# Altium integrated library TI Amplifiers and Linear PGA-VGA.IntLib: 149 symbols (part 4 of 8)
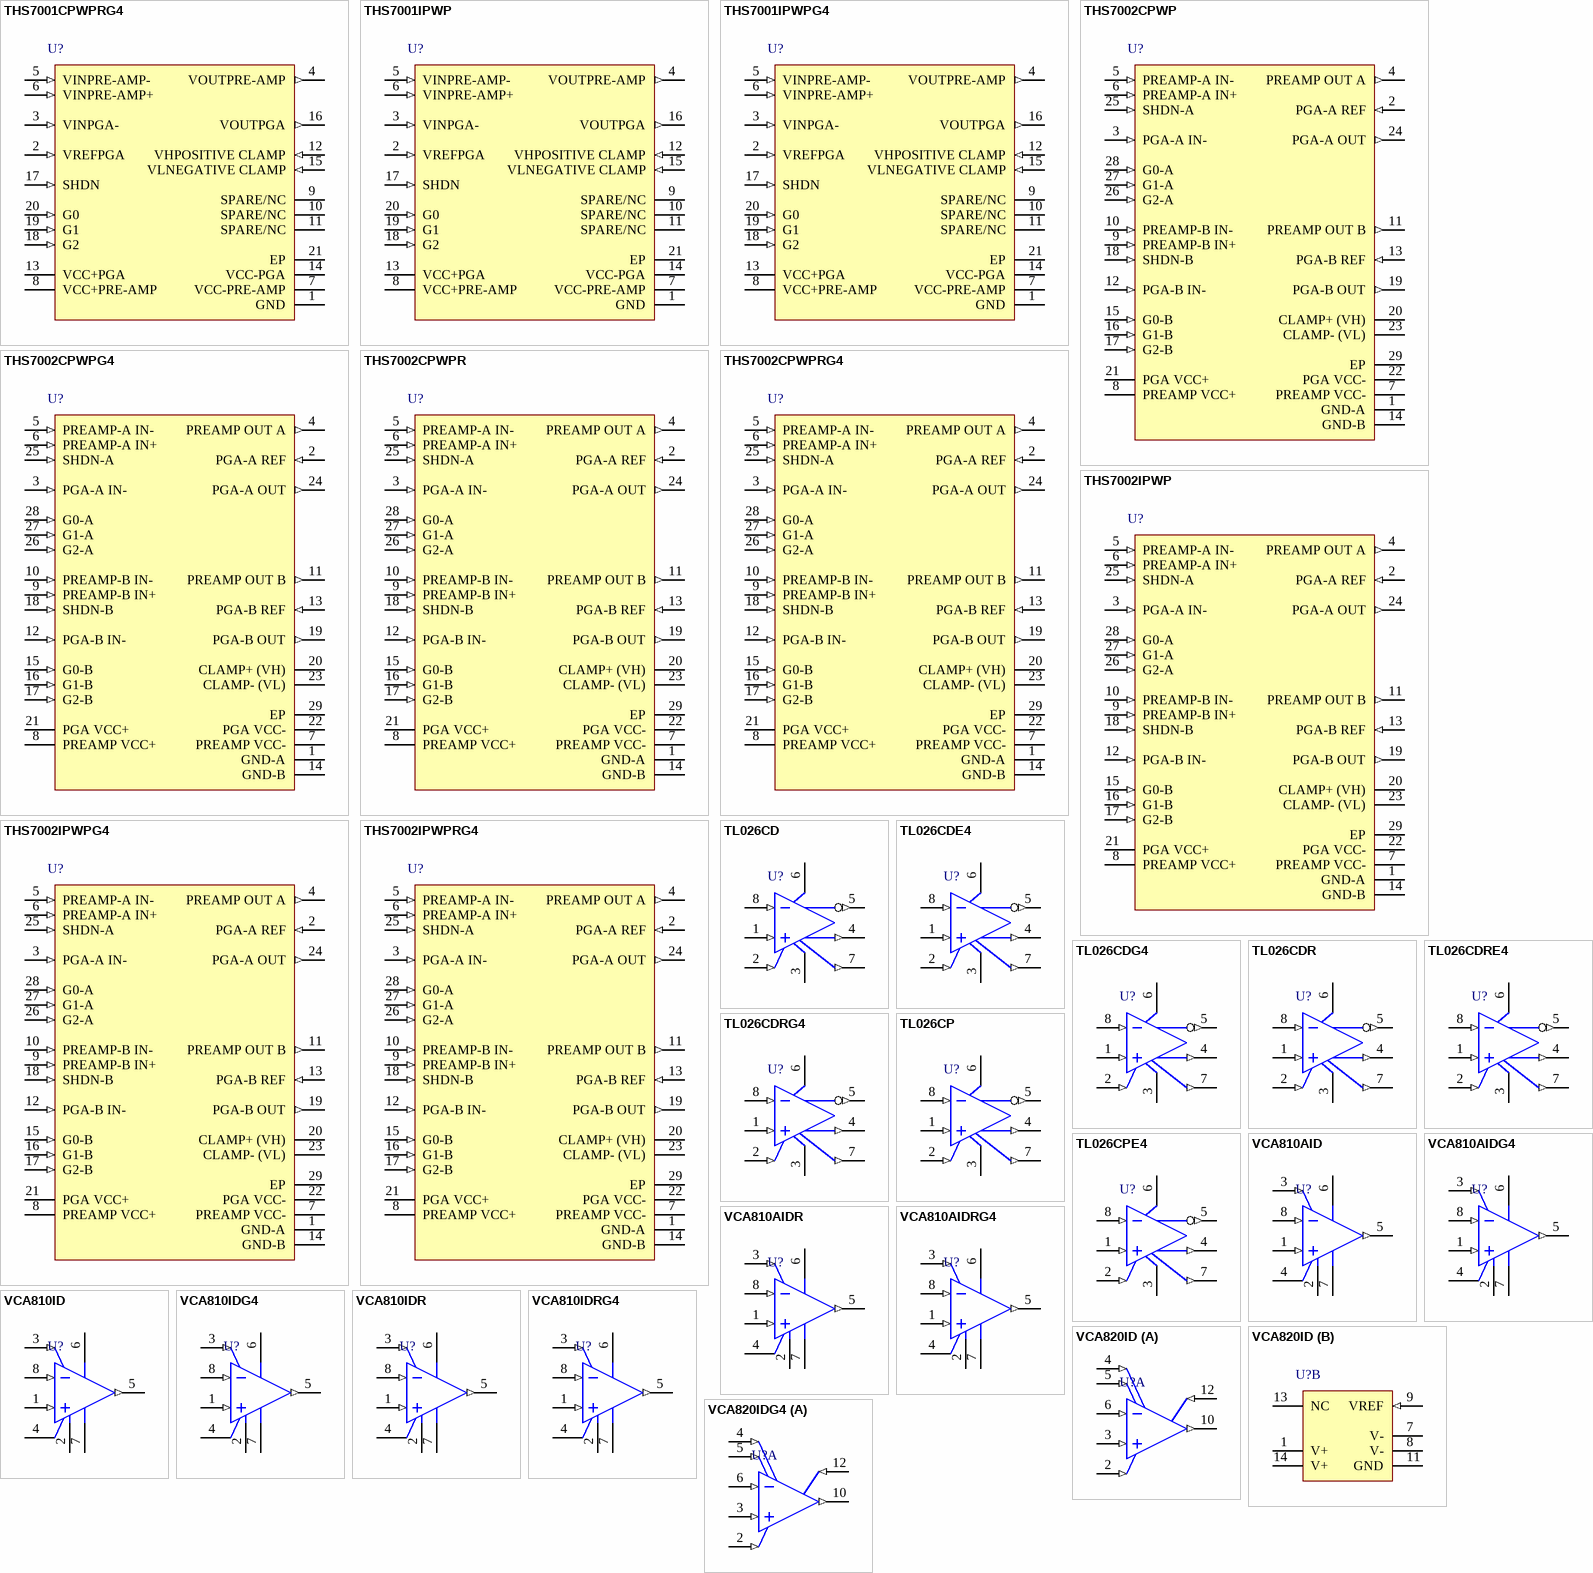
[diagram p10: symbols THS7001CPWPRG4 to VCA820IDG4]

## THS7002IPWPG4
designator U?
70-MHz High-Speed Programmable-Gain Amplifier, Dual, -40 to 85 degC, 28-pin SOP (PWP28), Green (RoHS & no Sb/Br); Manufacturer: Texas Instruments; PartNumber: THS7002IPWPG4; BW @ Acl(MHz): 100; Disable: TRUE; Iib(Max)(nA): 6000; Number of Channels: 2; Slew Rate(Typ)(V/us): 85; SubFamily: Variable Gain Amplifier; Vio(Max)(mV): 7; Vn at Flatband(Typ)(nV/rtHz): 1.7; Vs(Max)(V): 32; Vs(Min)(V): 9; DatasheetVersion: SLOS214C; PackageVersion: 4073225-6/I, 05/2011; PackageReference: PWP28-5720X1950TP; PackageDescription: 28-Pin Plastic Small Outline, Body 4.4 x 9.7 mm, Pitch 0.65 mm; Supplier 1: Digi-Key; Supplier Part Number 1: THS7002IPWPG4-ND; Supplier 2: Newark; Supplier Part Number 2: 52M6059; Supplier 3: Mouser; Supplier Part Number 3: 595-THS7002IPWPG4; Eco-Plan: Green (RoHS & no Sb/Br); Mounting Technology: Surface Mount; Code_JEDEC: MO-153; ComponentLink1Description: Manufacturer URL; ComponentLink1URL: http://www.ti.com/; ComponentLink2Description: Datasheet; ComponentLink2URL: http://www.ti.com/general/docs/lit/getliterature.tsp?genericPartNumber=THS7002&fileType=pdf; ComponentLink3Description: Package Specification; ComponentLink3URL: http://www.ti.com/litv/pdf/mpds373
footprint TI-PWP28-5720X1950TP_N (SOP, 28-Leads, Body 9.8x4.5mm, Pitch 0.65mm, Thermal Pad 6.17x2.4mm, IPC Medium Density)
footprint TI-PWP28-5720X1950TP_L (SOP, 28-Leads, Body 9.8x4.5mm, Pitch 0.65mm, Thermal Pad 6.17x2.4mm, IPC High Density)
footprint TI-PWP28-5720X1950TP_M (SOP, 28-Leads, Body 9.8x4.5mm, Pitch 0.65mm, Thermal Pad 6.17x2.4mm, IPC Low Density)
pins: 1 GND-A (power), 2 PGA-A REF (in), 3 PGA-A IN- (in), 4 PREAMP OUT A (out), 5 PREAMP-A IN- (in), 6 PREAMP-A IN+ (in), 7 PREAMP VCC- (power), 8 PREAMP VCC+ (power), 9 PREAMP-B IN+ (in), 10 PREAMP-B IN- (in), 11 PREAMP OUT B (out), 12 PGA-B IN- (in), 13 PGA-B REF (in), 14 GND-B (power), 15 G0-B (in), 16 G1-B (in), 17 G2-B (in), 18 SHDN-B (in), 19 PGA-B OUT (out), 20 CLAMP+ (VH) (power), 21 PGA VCC+ (power), 22 PGA VCC- (power), 23 CLAMP- (VL) (power), 24 PGA-A OUT (out), 25 SHDN-A (in), 26 G2-A (in), 27 G1-A (in), 28 G0-A (in), 29 EP (power)

## THS7002IPWPRG4
designator U?
70-MHz High-Speed Programmable-Gain Amplifier, Dual, -40 to 85 degC, 28-pin SOP (PWP28); Manufacturer: Texas Instruments; PartNumber: THS7002IPWPRG4; BW @ Acl(MHz): 100; Disable: TRUE; Iib(Max)(nA): 6000; Number of Channels: 2; Slew Rate(Typ)(V/us): 85; SubFamily: Variable Gain Amplifier; Vio(Max)(mV): 7; Vn at Flatband(Typ)(nV/rtHz): 1.7; Vs(Max)(V): 32; Vs(Min)(V): 9; DatasheetVersion: SLOS214C; PackageVersion: 4073225-6/I, 05/2011; PackageReference: PWP28-5720X1950TP; PackageDescription: 28-Pin Plastic Small Outline, Body 4.4 x 9.7 mm, Pitch 0.65 mm; Supplier 1: Mouser; Supplier Part Number 1: N/A; Mounting Technology: Surface Mount; Code_JEDEC: MO-153; ComponentLink1Description: Manufacturer URL; ComponentLink1URL: http://www.ti.com/; ComponentLink2Description: Datasheet; ComponentLink2URL: http://www.ti.com/general/docs/lit/getliterature.tsp?genericPartNumber=THS7002&fileType=pdf; ComponentLink3Description: Package Specification; ComponentLink3URL: http://www.ti.com/litv/pdf/mpds373
footprint TI-PWP28-5720X1950TP_N (SOP, 28-Leads, Body 9.8x4.5mm, Pitch 0.65mm, Thermal Pad 6.17x2.4mm, IPC Medium Density)
footprint TI-PWP28-5720X1950TP_L (SOP, 28-Leads, Body 9.8x4.5mm, Pitch 0.65mm, Thermal Pad 6.17x2.4mm, IPC High Density)
footprint TI-PWP28-5720X1950TP_M (SOP, 28-Leads, Body 9.8x4.5mm, Pitch 0.65mm, Thermal Pad 6.17x2.4mm, IPC Low Density)
pins: 1 GND-A (power), 2 PGA-A REF (in), 3 PGA-A IN- (in), 4 PREAMP OUT A (out), 5 PREAMP-A IN- (in), 6 PREAMP-A IN+ (in), 7 PREAMP VCC- (power), 8 PREAMP VCC+ (power), 9 PREAMP-B IN+ (in), 10 PREAMP-B IN- (in), 11 PREAMP OUT B (out), 12 PGA-B IN- (in), 13 PGA-B REF (in), 14 GND-B (power), 15 G0-B (in), 16 G1-B (in), 17 G2-B (in), 18 SHDN-B (in), 19 PGA-B OUT (out), 20 CLAMP+ (VH) (power), 21 PGA VCC+ (power), 22 PGA VCC- (power), 23 CLAMP- (VL) (power), 24 PGA-A OUT (out), 25 SHDN-A (in), 26 G2-A (in), 27 G1-A (in), 28 G0-A (in), 29 EP (power)

## TL026CD
designator U?
Differential High-Frequency Amplifier with AGC, 0 to 70 degC, 8-pin SOIC (D8), Green (RoHS & no Sb/Br); Manufacturer: Texas Instruments; PartNumber: TL026CD; BW @ Acl(MHz): 50; Iib(Max)(nA): 30000; Number of Channels: 1; SubFamily: Variable Gain Amplifier; Vn at Flatband(Typ)(nV/rtHz): 12; Vs(Max)(V): 8; Vs(Min)(V): 3; DatasheetVersion: SLFS007A; PackageVersion: 4040047-3/M, 06/2011; PackageReference: D8; PackageDescription: 8-Pin Plastic Small Outline, Body 4.9 x 3.9 mm, Pitch 1.27 mm; Supplier 1: Digi-Key; Supplier Part Number 1: 296-11818-5-ND; Supplier 2: Farnell; Supplier Part Number 2: 1459444; Supplier 3: Newark; Supplier Part Number 3: 62M0552; Supplier 4: Newark; Supplier Part Number 4: 76C9022; Supplier 5: Mouser; Supplier Part Number 5: 595-TL026CD; Eco-Plan: Green (RoHS & no Sb/Br); Mounting Technology: Surface Mount; Code_JEDEC: MS-012; ComponentLink1Description: Manufacturer URL; ComponentLink1URL: http://www.ti.com/; ComponentLink2Description: Datasheet; ComponentLink2URL: http://www.ti.com/general/docs/lit/getliterature.tsp?genericPartNumber=TL026&fileType=pdf; ComponentLink3Description: Package Specification; ComponentLink3URL: http://www.ti.com/litv/pdf/msoi002j
footprint TI-D8_N (SOIC, 8-Leads, Body 5x4mm, Pitch 1.27mm, IPC Medium Density)
footprint TI-D8_L (SOIC, 8-Leads, Body 5x4mm, Pitch 1.27mm, IPC High Density)
footprint TI-D8_M (SOIC, 8-Leads, Body 5x4mm, Pitch 1.27mm, IPC Low Density)
pins: 1 IN+ (in), 2 AGC (in), 3 VCC- (power), 4 OUT+ (out), 5 OUT- (out), 6 VCC+ (power), 7 REF OUT (out), 8 IN- (in)

## TL026CDE4
designator U?
Differential High-Frequency Amplifier with AGC, 0 to 70 degC, 8-pin SOIC (D8), Green (RoHS & no Sb/Br); Manufacturer: Texas Instruments; PartNumber: TL026CDE4; BW @ Acl(MHz): 50; Iib(Max)(nA): 30000; Number of Channels: 1; SubFamily: Variable Gain Amplifier; Vn at Flatband(Typ)(nV/rtHz): 12; Vs(Max)(V): 8; Vs(Min)(V): 3; DatasheetVersion: SLFS007A; PackageVersion: 4040047-3/M, 06/2011; PackageReference: D8; PackageDescription: 8-Pin Plastic Small Outline, Body 4.9 x 3.9 mm, Pitch 1.27 mm; Supplier 1: Digi-Key; Supplier Part Number 1: TL026CDE4-ND; Supplier 2: Mouser; Supplier Part Number 2: 595-TL026CDE4; Eco-Plan: Green (RoHS & no Sb/Br); Mounting Technology: Surface Mount; Code_JEDEC: MS-012; ComponentLink1Description: Manufacturer URL; ComponentLink1URL: http://www.ti.com/; ComponentLink2Description: Datasheet; ComponentLink2URL: http://www.ti.com/general/docs/lit/getliterature.tsp?genericPartNumber=TL026&fileType=pdf; ComponentLink3Description: Package Specification; ComponentLink3URL: http://www.ti.com/litv/pdf/msoi002j
footprint TI-D8_N (SOIC, 8-Leads, Body 5x4mm, Pitch 1.27mm, IPC Medium Density)
footprint TI-D8_L (SOIC, 8-Leads, Body 5x4mm, Pitch 1.27mm, IPC High Density)
footprint TI-D8_M (SOIC, 8-Leads, Body 5x4mm, Pitch 1.27mm, IPC Low Density)
pins: 1 IN+ (in), 2 AGC (in), 3 VCC- (power), 4 OUT+ (out), 5 OUT- (out), 6 VCC+ (power), 7 REF OUT (out), 8 IN- (in)

## TL026CDG4
designator U?
Differential High-Frequency Amplifier with AGC, 0 to 70 degC, 8-pin SOIC (D8), Green (RoHS & no Sb/Br); Manufacturer: Texas Instruments; PartNumber: TL026CDG4; BW @ Acl(MHz): 50; Iib(Max)(nA): 30000; Number of Channels: 1; SubFamily: Variable Gain Amplifier; Vn at Flatband(Typ)(nV/rtHz): 12; Vs(Max)(V): 8; Vs(Min)(V): 3; DatasheetVersion: SLFS007A; PackageVersion: 4040047-3/M, 06/2011; PackageReference: D8; PackageDescription: 8-Pin Plastic Small Outline, Body 4.9 x 3.9 mm, Pitch 1.27 mm; Supplier 1: Digi-Key; Supplier Part Number 1: TL026CDG4-ND; Supplier 2: Newark; Supplier Part Number 2: 41M5532; Supplier 3: Mouser; Supplier Part Number 3: 595-TL026CDG4; Eco-Plan: Green (RoHS & no Sb/Br); Mounting Technology: Surface Mount; Code_JEDEC: MS-012; ComponentLink1Description: Manufacturer URL; ComponentLink1URL: http://www.ti.com/; ComponentLink2Description: Datasheet; ComponentLink2URL: http://www.ti.com/general/docs/lit/getliterature.tsp?genericPartNumber=TL026&fileType=pdf; ComponentLink3Description: Package Specification; ComponentLink3URL: http://www.ti.com/litv/pdf/msoi002j
footprint TI-D8_N (SOIC, 8-Leads, Body 5x4mm, Pitch 1.27mm, IPC Medium Density)
footprint TI-D8_L (SOIC, 8-Leads, Body 5x4mm, Pitch 1.27mm, IPC High Density)
footprint TI-D8_M (SOIC, 8-Leads, Body 5x4mm, Pitch 1.27mm, IPC Low Density)
pins: 1 IN+ (in), 2 AGC (in), 3 VCC- (power), 4 OUT+ (out), 5 OUT- (out), 6 VCC+ (power), 7 REF OUT (out), 8 IN- (in)

## TL026CDR
designator U?
Differential High-Frequency Amplifier with AGC, 0 to 70 degC, 8-pin SOIC (D8), Green (RoHS & no Sb/Br); Manufacturer: Texas Instruments; PartNumber: TL026CDR; BW @ Acl(MHz): 50; Iib(Max)(nA): 30000; Number of Channels: 1; SubFamily: Variable Gain Amplifier; Vn at Flatband(Typ)(nV/rtHz): 12; Vs(Max)(V): 8; Vs(Min)(V): 3; DatasheetVersion: SLFS007A; PackageVersion: 4040047-3/M, 06/2011; PackageReference: D8; PackageDescription: 8-Pin Plastic Small Outline, Body 4.9 x 3.9 mm, Pitch 1.27 mm; Supplier 1: Digi-Key; Supplier Part Number 1: 296-24363-2-ND; Supplier 2: Digi-Key; Supplier Part Number 2: 296-24363-1-ND; Supplier 3: Digi-Key; Supplier Part Number 3: 296-24363-6-ND; Supplier 4: Newark; Supplier Part Number 4: 76C9023; Supplier 5: Mouser; Supplier Part Number 5: 595-TL026CDR; Eco-Plan: Green (RoHS & no Sb/Br); Mounting Technology: Surface Mount; Code_JEDEC: MS-012; ComponentLink1Description: Manufacturer URL; ComponentLink1URL: http://www.ti.com/; ComponentLink2Description: Datasheet; ComponentLink2URL: http://www.ti.com/general/docs/lit/getliterature.tsp?genericPartNumber=TL026&fileType=pdf; ComponentLink3Description: Package Specification; ComponentLink3URL: http://www.ti.com/litv/pdf/msoi002j
footprint TI-D8_N (SOIC, 8-Leads, Body 5x4mm, Pitch 1.27mm, IPC Medium Density)
footprint TI-D8_L (SOIC, 8-Leads, Body 5x4mm, Pitch 1.27mm, IPC High Density)
footprint TI-D8_M (SOIC, 8-Leads, Body 5x4mm, Pitch 1.27mm, IPC Low Density)
pins: 1 IN+ (in), 2 AGC (in), 3 VCC- (power), 4 OUT+ (out), 5 OUT- (out), 6 VCC+ (power), 7 REF OUT (out), 8 IN- (in)

## TL026CDRE4
designator U?
Differential High-Frequency Amplifier with AGC, 0 to 70 degC, 8-pin SOIC (D8), Green (RoHS & no Sb/Br); Manufacturer: Texas Instruments; PartNumber: TL026CDRE4; BW @ Acl(MHz): 50; Iib(Max)(nA): 30000; Number of Channels: 1; SubFamily: Variable Gain Amplifier; Vn at Flatband(Typ)(nV/rtHz): 12; Vs(Max)(V): 8; Vs(Min)(V): 3; DatasheetVersion: SLFS007A; PackageVersion: 4040047-3/M, 06/2011; PackageReference: D8; PackageDescription: 8-Pin Plastic Small Outline, Body 4.9 x 3.9 mm, Pitch 1.27 mm; Supplier 1: Digi-Key; Supplier Part Number 1: TL026CDRE4-ND; Supplier 2: Mouser; Supplier Part Number 2: 595-TL026CDRE4; Eco-Plan: Green (RoHS & no Sb/Br); Mounting Technology: Surface Mount; Code_JEDEC: MS-012; ComponentLink1Description: Manufacturer URL; ComponentLink1URL: http://www.ti.com/; ComponentLink2Description: Datasheet; ComponentLink2URL: http://www.ti.com/general/docs/lit/getliterature.tsp?genericPartNumber=TL026&fileType=pdf; ComponentLink3Description: Package Specification; ComponentLink3URL: http://www.ti.com/litv/pdf/msoi002j
footprint TI-D8_N (SOIC, 8-Leads, Body 5x4mm, Pitch 1.27mm, IPC Medium Density)
footprint TI-D8_L (SOIC, 8-Leads, Body 5x4mm, Pitch 1.27mm, IPC High Density)
footprint TI-D8_M (SOIC, 8-Leads, Body 5x4mm, Pitch 1.27mm, IPC Low Density)
pins: 1 IN+ (in), 2 AGC (in), 3 VCC- (power), 4 OUT+ (out), 5 OUT- (out), 6 VCC+ (power), 7 REF OUT (out), 8 IN- (in)

## TL026CDRG4
designator U?
Differential High-Frequency Amplifier with AGC, 0 to 70 degC, 8-pin SOIC (D8), Green (RoHS & no Sb/Br); Manufacturer: Texas Instruments; PartNumber: TL026CDRG4; BW @ Acl(MHz): 50; Iib(Max)(nA): 30000; Number of Channels: 1; SubFamily: Variable Gain Amplifier; Vn at Flatband(Typ)(nV/rtHz): 12; Vs(Max)(V): 8; Vs(Min)(V): 3; DatasheetVersion: SLFS007A; PackageVersion: 4040047-3/M, 06/2011; PackageReference: D8; PackageDescription: 8-Pin Plastic Small Outline, Body 4.9 x 3.9 mm, Pitch 1.27 mm; Supplier 1: Digi-Key; Supplier Part Number 1: TL026CDRG4-ND; Supplier 2: Newark; Supplier Part Number 2: 41M5533; Supplier 3: Mouser; Supplier Part Number 3: 595-TL026CDRG4; Eco-Plan: Green (RoHS & no Sb/Br); Mounting Technology: Surface Mount; Code_JEDEC: MS-012; ComponentLink1Description: Manufacturer URL; ComponentLink1URL: http://www.ti.com/; ComponentLink2Description: Datasheet; ComponentLink2URL: http://www.ti.com/general/docs/lit/getliterature.tsp?genericPartNumber=TL026&fileType=pdf; ComponentLink3Description: Package Specification; ComponentLink3URL: http://www.ti.com/litv/pdf/msoi002j
footprint TI-D8_N (SOIC, 8-Leads, Body 5x4mm, Pitch 1.27mm, IPC Medium Density)
footprint TI-D8_L (SOIC, 8-Leads, Body 5x4mm, Pitch 1.27mm, IPC High Density)
footprint TI-D8_M (SOIC, 8-Leads, Body 5x4mm, Pitch 1.27mm, IPC Low Density)
pins: 1 IN+ (in), 2 AGC (in), 3 VCC- (power), 4 OUT+ (out), 5 OUT- (out), 6 VCC+ (power), 7 REF OUT (out), 8 IN- (in)

## TL026CP
designator U?
Differential High-Frequency Amplifier with AGC, 0 to 70 degC, 8-pin DIP (P8), Pb-Free (RoHS); Manufacturer: Texas Instruments; PartNumber: TL026CP; BW @ Acl(MHz): 50; Iib(Max)(nA): 30000; Number of Channels: 1; SubFamily: Variable Gain Amplifier; Vn at Flatband(Typ)(nV/rtHz): 12; Vs(Max)(V): 8; Vs(Min)(V): 3; DatasheetVersion: SLFS007A; PackageVersion: 4040082/E, 04/2010; PackageReference: P8; PackageDescription: 8-Pin Plastic In-Line, Body 9.59 x 6.35 mm, Pitch 2.54 mm; Supplier 1: Digi-Key; Supplier Part Number 1: 296-11819-5-ND; Supplier 2: Newark; Supplier Part Number 2: 67C3282; Supplier 3: Mouser; Supplier Part Number 3: 595-TL026CP; Eco-Plan: Pb-Free (RoHS); Mounting Technology: Through Hole; Code_JEDEC: MS-001; ComponentLink1Description: Manufacturer URL; ComponentLink1URL: http://www.ti.com/; ComponentLink2Description: Datasheet; ComponentLink2URL: http://www.ti.com/general/docs/lit/getliterature.tsp?genericPartNumber=TL026&fileType=pdf; ComponentLink3Description: Package Specification; ComponentLink3URL: http://www.ti.com/litv/pdf/mpdi001b
footprint TI-P8 (DIP, 8-Leads, Body 10.15x6.6mm, Pitch 2.54mm)
pins: 1 IN+ (in), 2 AGC (in), 3 VCC- (power), 4 OUT+ (out), 5 OUT- (out), 6 VCC+ (power), 7 REF OUT (out), 8 IN- (in)

## TL026CPE4
designator U?
Differential High-Frequency Amplifier with AGC, 0 to 70 degC, 8-pin DIP (P8), Pb-Free (RoHS); Manufacturer: Texas Instruments; PartNumber: TL026CPE4; BW @ Acl(MHz): 50; Iib(Max)(nA): 30000; Number of Channels: 1; SubFamily: Variable Gain Amplifier; Vn at Flatband(Typ)(nV/rtHz): 12; Vs(Max)(V): 8; Vs(Min)(V): 3; DatasheetVersion: SLFS007A; PackageVersion: 4040082/E, 04/2010; PackageReference: P8; PackageDescription: 8-Pin Plastic In-Line, Body 9.59 x 6.35 mm, Pitch 2.54 mm; Supplier 1: Digi-Key; Supplier Part Number 1: TL026CPE4-ND; Supplier 2: Newark; Supplier Part Number 2: 37K4274; Supplier 3: Mouser; Supplier Part Number 3: 595-TL026CPE4; Eco-Plan: Pb-Free (RoHS); Mounting Technology: Through Hole; Code_JEDEC: MS-001; ComponentLink1Description: Manufacturer URL; ComponentLink1URL: http://www.ti.com/; ComponentLink2Description: Datasheet; ComponentLink2URL: http://www.ti.com/general/docs/lit/getliterature.tsp?genericPartNumber=TL026&fileType=pdf; ComponentLink3Description: Package Specification; ComponentLink3URL: http://www.ti.com/litv/pdf/mpdi001b
footprint TI-P8 (DIP, 8-Leads, Body 10.15x6.6mm, Pitch 2.54mm)
pins: 1 IN+ (in), 2 AGC (in), 3 VCC- (power), 4 OUT+ (out), 5 OUT- (out), 6 VCC+ (power), 7 REF OUT (out), 8 IN- (in)

## VCA810AID
designator U?
High-Gain Adjustable Range, Wideband, Voltage-Controlled Amplifier, -40 to 85 degC, 8-pin SOIC (D8), Green (RoHS & no Sb/Br); Manufacturer: Texas Instruments; PartNumber: VCA810AID; Iib(Max)(nA): 6000; Number of Channels: 1; Slew Rate(Typ)(V/us): 350; SubFamily: Variable Gain Amplifier; Vio(Max)(mV): 0.2; Vn at Flatband(Typ)(nV/rtHz): 2.4; Vs(Max)(V): 12; Vs(Min)(V): 8; DatasheetVersion: SBOS275F; PackageVersion: 4040047-3/M, 06/2011; PackageReference: D8; PackageDescription: 8-Pin Plastic Small Outline, Body 4.9 x 3.9 mm, Pitch 1.27 mm; Supplier 1: Digi-Key; Supplier Part Number 1: 296-17491-5-ND; Supplier 2: Newark; Supplier Part Number 2: 65J6996; Supplier 3: Mouser; Supplier Part Number 3: 595-VCA810AID; Eco-Plan: Green (RoHS & no Sb/Br); Mounting Technology: Surface Mount; Code_JEDEC: MS-012; ComponentLink1Description: Manufacturer URL; ComponentLink1URL: http://www.ti.com/; ComponentLink2Description: Datasheet; ComponentLink2URL: http://www.ti.com/general/docs/lit/getliterature.tsp?genericPartNumber=VCA810&fileType=pdf; ComponentLink3Description: Package Specification; ComponentLink3URL: http://www.ti.com/litv/pdf/msoi002j
footprint TI-D8_N (SOIC, 8-Leads, Body 5x4mm, Pitch 1.27mm, IPC Medium Density)
footprint TI-D8_L (SOIC, 8-Leads, Body 5x4mm, Pitch 1.27mm, IPC High Density)
footprint TI-D8_M (SOIC, 8-Leads, Body 5x4mm, Pitch 1.27mm, IPC Low Density)
pins: 1 IN+ (in), 2 GND (power), 3 VC (in), 4 NC, 5 VOUT (out), 6 VS+ (power), 7 VS- (power), 8 IN- (in)

## VCA810AIDG4
designator U?
High-Gain Adjustable Range, Wideband, Voltage-Controlled Amplifier, -40 to 85 degC, 8-pin SOIC (D8), Green (RoHS & no Sb/Br); Manufacturer: Texas Instruments; PartNumber: VCA810AIDG4; Iib(Max)(nA): 6000; Number of Channels: 1; Slew Rate(Typ)(V/us): 350; SubFamily: Variable Gain Amplifier; Vio(Max)(mV): 0.2; Vn at Flatband(Typ)(nV/rtHz): 2.4; Vs(Max)(V): 12; Vs(Min)(V): 8; DatasheetVersion: SBOS275F; PackageVersion: 4040047-3/M, 06/2011; PackageReference: D8; PackageDescription: 8-Pin Plastic Small Outline, Body 4.9 x 3.9 mm, Pitch 1.27 mm; Supplier 1: Digi-Key; Supplier Part Number 1: VCA810AIDG4-ND; Supplier 2: Mouser; Supplier Part Number 2: 595-VCA810AIDG4; Eco-Plan: Green (RoHS & no Sb/Br); Mounting Technology: Surface Mount; Code_JEDEC: MS-012; ComponentLink1Description: Manufacturer URL; ComponentLink1URL: http://www.ti.com/; ComponentLink2Description: Datasheet; ComponentLink2URL: http://www.ti.com/general/docs/lit/getliterature.tsp?genericPartNumber=VCA810&fileType=pdf; ComponentLink3Description: Package Specification; ComponentLink3URL: http://www.ti.com/litv/pdf/msoi002j
footprint TI-D8_N (SOIC, 8-Leads, Body 5x4mm, Pitch 1.27mm, IPC Medium Density)
footprint TI-D8_L (SOIC, 8-Leads, Body 5x4mm, Pitch 1.27mm, IPC High Density)
footprint TI-D8_M (SOIC, 8-Leads, Body 5x4mm, Pitch 1.27mm, IPC Low Density)
pins: 1 IN+ (in), 2 GND (power), 3 VC (in), 4 NC, 5 VOUT (out), 6 VS+ (power), 7 VS- (power), 8 IN- (in)

## VCA810AIDR
designator U?
High-Gain Adjustable Range, Wideband, Voltage-Controlled Amplifier, -40 to 85 degC, 8-pin SOIC (D8), Green (RoHS & no Sb/Br); Manufacturer: Texas Instruments; PartNumber: VCA810AIDR; Iib(Max)(nA): 6000; Number of Channels: 1; Slew Rate(Typ)(V/us): 350; SubFamily: Variable Gain Amplifier; Vio(Max)(mV): 0.2; Vn at Flatband(Typ)(nV/rtHz): 2.4; Vs(Max)(V): 12; Vs(Min)(V): 8; DatasheetVersion: SBOS275F; PackageVersion: 4040047-3/M, 06/2011; PackageReference: D8; PackageDescription: 8-Pin Plastic Small Outline, Body 4.9 x 3.9 mm, Pitch 1.27 mm; Supplier 1: Digi-Key; Supplier Part Number 1: VCA810AIDR-ND; Supplier 2: Mouser; Supplier Part Number 2: 595-VCA810AIDR; Eco-Plan: Green (RoHS & no Sb/Br); Mounting Technology: Surface Mount; Code_JEDEC: MS-012; ComponentLink1Description: Manufacturer URL; ComponentLink1URL: http://www.ti.com/; ComponentLink2Description: Datasheet; ComponentLink2URL: http://www.ti.com/general/docs/lit/getliterature.tsp?genericPartNumber=VCA810&fileType=pdf; ComponentLink3Description: Package Specification; ComponentLink3URL: http://www.ti.com/litv/pdf/msoi002j
footprint TI-D8_N (SOIC, 8-Leads, Body 5x4mm, Pitch 1.27mm, IPC Medium Density)
footprint TI-D8_L (SOIC, 8-Leads, Body 5x4mm, Pitch 1.27mm, IPC High Density)
footprint TI-D8_M (SOIC, 8-Leads, Body 5x4mm, Pitch 1.27mm, IPC Low Density)
pins: 1 IN+ (in), 2 GND (power), 3 VC (in), 4 NC, 5 VOUT (out), 6 VS+ (power), 7 VS- (power), 8 IN- (in)

## VCA810AIDRG4
designator U?
High-Gain Adjustable Range, Wideband, Voltage-Controlled Amplifier, -40 to 85 degC, 8-pin SOIC (D8), Green (RoHS & no Sb/Br); Manufacturer: Texas Instruments; PartNumber: VCA810AIDRG4; Iib(Max)(nA): 6000; Number of Channels: 1; Slew Rate(Typ)(V/us): 350; SubFamily: Variable Gain Amplifier; Vio(Max)(mV): 0.2; Vn at Flatband(Typ)(nV/rtHz): 2.4; Vs(Max)(V): 12; Vs(Min)(V): 8; DatasheetVersion: SBOS275F; PackageVersion: 4040047-3/M, 06/2011; PackageReference: D8; PackageDescription: 8-Pin Plastic Small Outline, Body 4.9 x 3.9 mm, Pitch 1.27 mm; Supplier 1: Digi-Key; Supplier Part Number 1: VCA810AIDRG4-ND; Supplier 2: Mouser; Supplier Part Number 2: 595-VCA810AIDRG4; Eco-Plan: Green (RoHS & no Sb/Br); Mounting Technology: Surface Mount; Code_JEDEC: MS-012; ComponentLink1Description: Manufacturer URL; ComponentLink1URL: http://www.ti.com/; ComponentLink2Description: Datasheet; ComponentLink2URL: http://www.ti.com/general/docs/lit/getliterature.tsp?genericPartNumber=VCA810&fileType=pdf; ComponentLink3Description: Package Specification; ComponentLink3URL: http://www.ti.com/litv/pdf/msoi002j
footprint TI-D8_N (SOIC, 8-Leads, Body 5x4mm, Pitch 1.27mm, IPC Medium Density)
footprint TI-D8_L (SOIC, 8-Leads, Body 5x4mm, Pitch 1.27mm, IPC High Density)
footprint TI-D8_M (SOIC, 8-Leads, Body 5x4mm, Pitch 1.27mm, IPC Low Density)
pins: 1 IN+ (in), 2 GND (power), 3 VC (in), 4 NC, 5 VOUT (out), 6 VS+ (power), 7 VS- (power), 8 IN- (in)

## VCA810ID
designator U?
High-Gain Adjustable Range, Wideband, Voltage-Controlled Amplifier, -40 to 85 degC, 8-pin SOIC (D8), Green (RoHS & no Sb/Br); Manufacturer: Texas Instruments; PartNumber: VCA810ID; Iib(Max)(nA): 6000; Number of Channels: 1; Slew Rate(Typ)(V/us): 350; SubFamily: Variable Gain Amplifier; Vio(Max)(mV): 0.2; Vn at Flatband(Typ)(nV/rtHz): 2.4; Vs(Max)(V): 12; Vs(Min)(V): 8; DatasheetVersion: SBOS275F; PackageVersion: 4040047-3/M, 06/2011; PackageReference: D8; PackageDescription: 8-Pin Plastic Small Outline, Body 4.9 x 3.9 mm, Pitch 1.27 mm; Supplier 1: Digi-Key; Supplier Part Number 1: 296-17317-5-ND; Supplier 2: Farnell; Supplier Part Number 2: 1460057; Supplier 3: Newark; Supplier Part Number 3: 44J2710; Supplier 4: Mouser; Supplier Part Number 4: 595-VCA810ID; Eco-Plan: Green (RoHS & no Sb/Br); Mounting Technology: Surface Mount; Code_JEDEC: MS-012; ComponentLink1Description: Manufacturer URL; ComponentLink1URL: http://www.ti.com/; ComponentLink2Description: Datasheet; ComponentLink2URL: http://www.ti.com/general/docs/lit/getliterature.tsp?genericPartNumber=VCA810&fileType=pdf; ComponentLink3Description: Package Specification; ComponentLink3URL: http://www.ti.com/litv/pdf/msoi002j
footprint TI-D8_N (SOIC, 8-Leads, Body 5x4mm, Pitch 1.27mm, IPC Medium Density)
footprint TI-D8_L (SOIC, 8-Leads, Body 5x4mm, Pitch 1.27mm, IPC High Density)
footprint TI-D8_M (SOIC, 8-Leads, Body 5x4mm, Pitch 1.27mm, IPC Low Density)
pins: 1 IN+ (in), 2 GND (power), 3 VC (in), 4 NC, 5 VOUT (out), 6 VS+ (power), 7 VS- (power), 8 IN- (in)

## VCA810IDG4
designator U?
High-Gain Adjustable Range, Wideband, Voltage-Controlled Amplifier, -40 to 85 degC, 8-pin SOIC (D8), Green (RoHS & no Sb/Br); Manufacturer: Texas Instruments; PartNumber: VCA810IDG4; Iib(Max)(nA): 6000; Number of Channels: 1; Slew Rate(Typ)(V/us): 350; SubFamily: Variable Gain Amplifier; Vio(Max)(mV): 0.2; Vn at Flatband(Typ)(nV/rtHz): 2.4; Vs(Max)(V): 12; Vs(Min)(V): 8; DatasheetVersion: SBOS275F; PackageVersion: 4040047-3/M, 06/2011; PackageReference: D8; PackageDescription: 8-Pin Plastic Small Outline, Body 4.9 x 3.9 mm, Pitch 1.27 mm; Supplier 1: Digi-Key; Supplier Part Number 1: VCA810IDG4-ND; Supplier 2: Newark; Supplier Part Number 2: 67K8833; Supplier 3: Mouser; Supplier Part Number 3: 595-VCA810IDG4; Eco-Plan: Green (RoHS & no Sb/Br); Mounting Technology: Surface Mount; Code_JEDEC: MS-012; ComponentLink1Description: Manufacturer URL; ComponentLink1URL: http://www.ti.com/; ComponentLink2Description: Datasheet; ComponentLink2URL: http://www.ti.com/general/docs/lit/getliterature.tsp?genericPartNumber=VCA810&fileType=pdf; ComponentLink3Description: Package Specification; ComponentLink3URL: http://www.ti.com/litv/pdf/msoi002j
footprint TI-D8_N (SOIC, 8-Leads, Body 5x4mm, Pitch 1.27mm, IPC Medium Density)
footprint TI-D8_L (SOIC, 8-Leads, Body 5x4mm, Pitch 1.27mm, IPC High Density)
footprint TI-D8_M (SOIC, 8-Leads, Body 5x4mm, Pitch 1.27mm, IPC Low Density)
pins: 1 IN+ (in), 2 GND (power), 3 VC (in), 4 NC, 5 VOUT (out), 6 VS+ (power), 7 VS- (power), 8 IN- (in)

## VCA810IDR
designator U?
High-Gain Adjustable Range, Wideband, Voltage-Controlled Amplifier, -40 to 85 degC, 8-pin SOIC (D8), Green (RoHS & no Sb/Br); Manufacturer: Texas Instruments; PartNumber: VCA810IDR; Iib(Max)(nA): 6000; Number of Channels: 1; Slew Rate(Typ)(V/us): 350; SubFamily: Variable Gain Amplifier; Vio(Max)(mV): 0.2; Vn at Flatband(Typ)(nV/rtHz): 2.4; Vs(Max)(V): 12; Vs(Min)(V): 8; DatasheetVersion: SBOS275F; PackageVersion: 4040047-3/M, 06/2011; PackageReference: D8; PackageDescription: 8-Pin Plastic Small Outline, Body 4.9 x 3.9 mm, Pitch 1.27 mm; Supplier 1: Digi-Key; Supplier Part Number 1: VCA810IDR-ND; Supplier 2: Newark; Supplier Part Number 2: 44J2711; Supplier 3: Mouser; Supplier Part Number 3: 595-VCA810IDR; Eco-Plan: Green (RoHS & no Sb/Br); Mounting Technology: Surface Mount; Code_JEDEC: MS-012; ComponentLink1Description: Manufacturer URL; ComponentLink1URL: http://www.ti.com/; ComponentLink2Description: Datasheet; ComponentLink2URL: http://www.ti.com/general/docs/lit/getliterature.tsp?genericPartNumber=VCA810&fileType=pdf; ComponentLink3Description: Package Specification; ComponentLink3URL: http://www.ti.com/litv/pdf/msoi002j
footprint TI-D8_N (SOIC, 8-Leads, Body 5x4mm, Pitch 1.27mm, IPC Medium Density)
footprint TI-D8_L (SOIC, 8-Leads, Body 5x4mm, Pitch 1.27mm, IPC High Density)
footprint TI-D8_M (SOIC, 8-Leads, Body 5x4mm, Pitch 1.27mm, IPC Low Density)
pins: 1 IN+ (in), 2 GND (power), 3 VC (in), 4 NC, 5 VOUT (out), 6 VS+ (power), 7 VS- (power), 8 IN- (in)

## VCA810IDRG4
designator U?
High-Gain Adjustable Range, Wideband, Voltage-Controlled Amplifier, -40 to 85 degC, 8-pin SOIC (D8), Green (RoHS & no Sb/Br); Manufacturer: Texas Instruments; PartNumber: VCA810IDRG4; Iib(Max)(nA): 6000; Number of Channels: 1; Slew Rate(Typ)(V/us): 350; SubFamily: Variable Gain Amplifier; Vio(Max)(mV): 0.2; Vn at Flatband(Typ)(nV/rtHz): 2.4; Vs(Max)(V): 12; Vs(Min)(V): 8; DatasheetVersion: SBOS275F; PackageVersion: 4040047-3/M, 06/2011; PackageReference: D8; PackageDescription: 8-Pin Plastic Small Outline, Body 4.9 x 3.9 mm, Pitch 1.27 mm; Supplier 1: Digi-Key; Supplier Part Number 1: VCA810IDRG4-ND; Supplier 2: Newark; Supplier Part Number 2: 67K8834; Supplier 3: Mouser; Supplier Part Number 3: 595-VCA810IDRG4; Eco-Plan: Green (RoHS & no Sb/Br); Mounting Technology: Surface Mount; Code_JEDEC: MS-012; ComponentLink1Description: Manufacturer URL; ComponentLink1URL: http://www.ti.com/; ComponentLink2Description: Datasheet; ComponentLink2URL: http://www.ti.com/general/docs/lit/getliterature.tsp?genericPartNumber=VCA810&fileType=pdf; ComponentLink3Description: Package Specification; ComponentLink3URL: http://www.ti.com/litv/pdf/msoi002j
footprint TI-D8_N (SOIC, 8-Leads, Body 5x4mm, Pitch 1.27mm, IPC Medium Density)
footprint TI-D8_L (SOIC, 8-Leads, Body 5x4mm, Pitch 1.27mm, IPC High Density)
footprint TI-D8_M (SOIC, 8-Leads, Body 5x4mm, Pitch 1.27mm, IPC Low Density)
pins: 1 IN+ (in), 2 GND (power), 3 VC (in), 4 NC, 5 VOUT (out), 6 VS+ (power), 7 VS- (power), 8 IN- (in)

## VCA820ID
designator U?
150 MHz BW with Linear in dB Gain Control Variable Gain Amplifier, -40 to 85 degC, 14-pin SOIC (D14), Green (RoHS & no Sb/Br); Manufacturer: Texas Instruments; PartNumber: VCA820ID; Iib(Max)(nA): 25000; Number of Channels: 1; Slew Rate(Typ)(V/us): 1700; Vio(Max)(mV): 17; Vn at Flatband(Typ)(nV/rtHz): 8.2; Vs(Max)(V): 12; Vs(Min)(V): 7; DatasheetVersion: SBOS395C; PackageVersion: 4040047-5/M, 06/2011; PackageReference: D14; PackageDescription: 14-Pin Plastic Small Outline, Body 8.65 x 3.9 mm, Pitch 1.27 mm; Supplier 1: Digi-Key; Supplier Part Number 1: 296-22871-5-ND; Supplier 2: Newark; Supplier Part Number 2: 62M1006; Supplier 3: Mouser; Supplier Part Number 3: 595-VCA820ID; Eco-Plan: Green (RoHS & no Sb/Br); SubFamily: Variable Gain Amplifier; Mounting Technology: Surface Mount; Code_JEDEC: MS-012; ComponentLink1Description: Manufacturer URL; ComponentLink1URL: http://www.ti.com/; ComponentLink2Description: Datasheet; ComponentLink2URL: http://www.ti.com/general/docs/lit/getliterature.tsp?genericPartNumber=VCA820&fileType=pdf; ComponentLink3Description: Package Specification; ComponentLink3URL: http://www.ti.com/lit/ml/mpds177g/mpds177g.pdf
footprint TI-D14_N (SOIC, 14-Leads, Body 8.75x4mm, Pitch 1.27mm, IPC Medium Density)
footprint TI-D14_L (SOIC, 14-Leads, Body 8.75x4mm, Pitch 1.27mm, IPC High Density)
footprint TI-D14_M (SOIC, 14-Leads, Body 8.75x4mm, Pitch 1.27mm, IPC Low Density)
part A pins: 2 VG (in), 3 VIN+ (in), 4 RG+ (in), 5 RG- (in), 6 VIN- (in), 10 VOUT (out), 12 I- (in)
part B pins: 1 V+ (power), 7 V- (power), 8 V- (power), 9 VREF (in), 11 GND (power), 13 NC, 14 V+ (power)

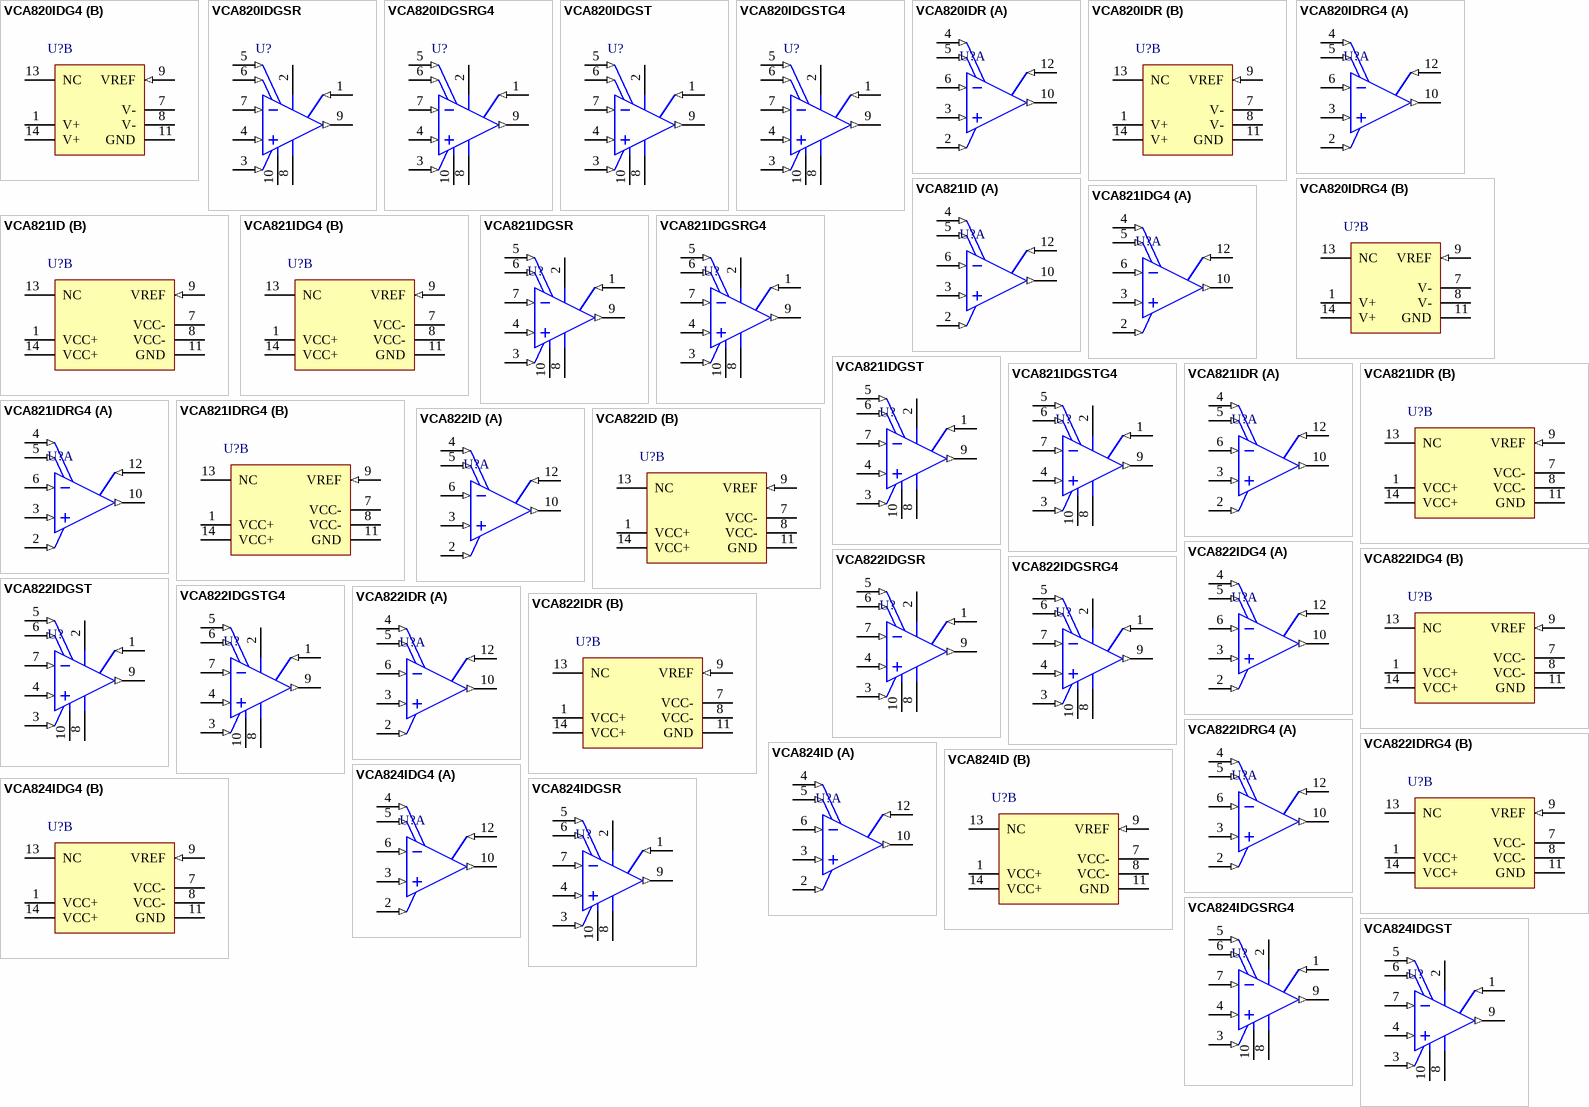
[diagram p3: symbols VCA820IDG4 to VCA824IDGST]

## VCA820IDG4
designator U?
150 MHz BW with Linear in dB Gain Control Variable Gain Amplifier, -40 to 85 degC, 14-pin SOIC (D14), Green (RoHS & no Sb/Br); Manufacturer: Texas Instruments; PartNumber: VCA820IDG4; Iib(Max)(nA): 25000; Number of Channels: 1; Slew Rate(Typ)(V/us): 1700; Vio(Max)(mV): 17; Vn at Flatband(Typ)(nV/rtHz): 8.2; Vs(Max)(V): 12; Vs(Min)(V): 7; DatasheetVersion: SBOS395C; PackageVersion: 4040047-5/M, 06/2011; PackageReference: D14; PackageDescription: 14-Pin Plastic Small Outline, Body 8.65 x 3.9 mm, Pitch 1.27 mm; Supplier 1: Digi-Key; Supplier Part Number 1: VCA820IDG4-ND; Supplier 2: Newark; Supplier Part Number 2: 65M6469; Supplier 3: Mouser; Supplier Part Number 3: 595-VCA820IDG4; Eco-Plan: Green (RoHS & no Sb/Br); SubFamily: Variable Gain Amplifier; Mounting Technology: Surface Mount; Code_JEDEC: MS-012; ComponentLink1Description: Manufacturer URL; ComponentLink1URL: http://www.ti.com/; ComponentLink2Description: Datasheet; ComponentLink2URL: http://www.ti.com/general/docs/lit/getliterature.tsp?genericPartNumber=VCA820&fileType=pdf; ComponentLink3Description: Package Specification; ComponentLink3URL: http://www.ti.com/lit/ml/mpds177g/mpds177g.pdf
footprint TI-D14_N (SOIC, 14-Leads, Body 8.75x4mm, Pitch 1.27mm, IPC Medium Density)
footprint TI-D14_L (SOIC, 14-Leads, Body 8.75x4mm, Pitch 1.27mm, IPC High Density)
footprint TI-D14_M (SOIC, 14-Leads, Body 8.75x4mm, Pitch 1.27mm, IPC Low Density)
part A pins: 2 VG (in), 3 VIN+ (in), 4 RG+ (in), 5 RG- (in), 6 VIN- (in), 10 VOUT (out), 12 I- (in)
part B pins: 1 V+ (power), 7 V- (power), 8 V- (power), 9 VREF (in), 11 GND (power), 13 NC, 14 V+ (power)

## VCA820IDGSR
designator U?
150 MHz BW with Linear in dB Gain Control Variable Gain Amplifier, -40 to 85 degC, 10-pin SOP (DGS10), Green (RoHS & no Sb/Br); Manufacturer: Texas Instruments; PartNumber: VCA820IDGSR; Iib(Max)(nA): 25000; Number of Channels: 1; Slew Rate(Typ)(V/us): 1700; Vio(Max)(mV): 17; Vn at Flatband(Typ)(nV/rtHz): 8.2; Vs(Max)(V): 12; Vs(Min)(V): 7; DatasheetVersion: SBOS395C; PackageVersion: 4073272/C, 02/2004; PackageReference: DGS10; PackageDescription: 10-Pin Plastic Small Outline, Body 3 x 3 mm, Pitch 0.5 mm; Supplier 1: Digi-Key; Supplier Part Number 1: VCA820IDGSR-ND; Supplier 2: Mouser; Supplier Part Number 2: 595-VCA820IDGSR; Eco-Plan: Green (RoHS & no Sb/Br); SubFamily: Variable Gain Amplifier; Mounting Technology: Surface Mount; Code_JEDEC: MO-153; ComponentLink1Description: Manufacturer URL; ComponentLink1URL: http://www.ti.com/; ComponentLink2Description: Datasheet; ComponentLink2URL: http://www.ti.com/general/docs/lit/getliterature.tsp?genericPartNumber=VCA820&fileType=pdf; ComponentLink3Description: Package Specification; ComponentLink3URL: http://www.ti.com/lit/ml/mpds035b/mpds035b.pdf
footprint TI-DGS10_N (SOP, 10-Leads, Body 3.1x3.1mm, Pitch 0.5mm, IPC Medium Density)
footprint TI-DGS10_L (SOP, 10-Leads, Body 3.1x3.1mm, Pitch 0.5mm, IPC High Density)
footprint TI-DGS10_M (SOP, 10-Leads, Body 3.1x3.1mm, Pitch 0.5mm, IPC Low Density)
pins: 1 I- (in), 2 VCC+ (power), 3 VG (in), 4 VIN+ (in), 5 RG+ (in), 6 RG- (in), 7 VIN- (in), 8 VCC- (power), 9 VOUT (out), 10 GND (power)

## VCA820IDGSRG4
designator U?
150 MHz BW with Linear in dB Gain Control Variable Gain Amplifier, -40 to 85 degC, 10-pin SOP (DGS10), Green (RoHS & no Sb/Br); Manufacturer: Texas Instruments; PartNumber: VCA820IDGSRG4; Iib(Max)(nA): 25000; Number of Channels: 1; Slew Rate(Typ)(V/us): 1700; Vio(Max)(mV): 17; Vn at Flatband(Typ)(nV/rtHz): 8.2; Vs(Max)(V): 12; Vs(Min)(V): 7; DatasheetVersion: SBOS395C; PackageVersion: 4073272/C, 02/2004; PackageReference: DGS10; PackageDescription: 10-Pin Plastic Small Outline, Body 3 x 3 mm, Pitch 0.5 mm; Supplier 1: Digi-Key; Supplier Part Number 1: VCA820IDGSRG4-ND; Supplier 2: Mouser; Supplier Part Number 2: 595-VCA820IDGSRG4; Eco-Plan: Green (RoHS & no Sb/Br); SubFamily: Variable Gain Amplifier; Mounting Technology: Surface Mount; Code_JEDEC: MO-153; ComponentLink1Description: Manufacturer URL; ComponentLink1URL: http://www.ti.com/; ComponentLink2Description: Datasheet; ComponentLink2URL: http://www.ti.com/general/docs/lit/getliterature.tsp?genericPartNumber=VCA820&fileType=pdf; ComponentLink3Description: Package Specification; ComponentLink3URL: http://www.ti.com/lit/ml/mpds035b/mpds035b.pdf
footprint TI-DGS10_N (SOP, 10-Leads, Body 3.1x3.1mm, Pitch 0.5mm, IPC Medium Density)
footprint TI-DGS10_L (SOP, 10-Leads, Body 3.1x3.1mm, Pitch 0.5mm, IPC High Density)
footprint TI-DGS10_M (SOP, 10-Leads, Body 3.1x3.1mm, Pitch 0.5mm, IPC Low Density)
pins: 1 I- (in), 2 VCC+ (power), 3 VG (in), 4 VIN+ (in), 5 RG+ (in), 6 RG- (in), 7 VIN- (in), 8 VCC- (power), 9 VOUT (out), 10 GND (power)

## VCA820IDGST
designator U?
150 MHz BW with Linear in dB Gain Control Variable Gain Amplifier, -40 to 85 degC, 10-pin SOP (DGS10), Green (RoHS & no Sb/Br); Manufacturer: Texas Instruments; PartNumber: VCA820IDGST; Iib(Max)(nA): 25000; Number of Channels: 1; Slew Rate(Typ)(V/us): 1700; Vio(Max)(mV): 17; Vn at Flatband(Typ)(nV/rtHz): 8.2; Vs(Max)(V): 12; Vs(Min)(V): 7; DatasheetVersion: SBOS395C; PackageVersion: 4073272/C, 02/2004; PackageReference: DGS10; PackageDescription: 10-Pin Plastic Small Outline, Body 3 x 3 mm, Pitch 0.5 mm; Supplier 1: Digi-Key; Supplier Part Number 1: 296-22872-2-ND; Supplier 2: Digi-Key; Supplier Part Number 2: 296-22872-1-ND; Supplier 3: Digi-Key; Supplier Part Number 3: 296-22872-6-ND; Supplier 4: Mouser; Supplier Part Number 4: 595-VCA820IDGST; Eco-Plan: Green (RoHS & no Sb/Br); SubFamily: Variable Gain Amplifier; Mounting Technology: Surface Mount; Code_JEDEC: MO-153; ComponentLink1Description: Manufacturer URL; ComponentLink1URL: http://www.ti.com/; ComponentLink2Description: Datasheet; ComponentLink2URL: http://www.ti.com/general/docs/lit/getliterature.tsp?genericPartNumber=VCA820&fileType=pdf; ComponentLink3Description: Package Specification; ComponentLink3URL: http://www.ti.com/lit/ml/mpds035b/mpds035b.pdf
footprint TI-DGS10_N (SOP, 10-Leads, Body 3.1x3.1mm, Pitch 0.5mm, IPC Medium Density)
footprint TI-DGS10_L (SOP, 10-Leads, Body 3.1x3.1mm, Pitch 0.5mm, IPC High Density)
footprint TI-DGS10_M (SOP, 10-Leads, Body 3.1x3.1mm, Pitch 0.5mm, IPC Low Density)
pins: 1 I- (in), 2 VCC+ (power), 3 VG (in), 4 VIN+ (in), 5 RG+ (in), 6 RG- (in), 7 VIN- (in), 8 VCC- (power), 9 VOUT (out), 10 GND (power)

## VCA820IDGSTG4
designator U?
150 MHz BW with Linear in dB Gain Control Variable Gain Amplifier, -40 to 85 degC, 10-pin SOP (DGS10), Green (RoHS & no Sb/Br); Manufacturer: Texas Instruments; PartNumber: VCA820IDGSTG4; Iib(Max)(nA): 25000; Number of Channels: 1; Slew Rate(Typ)(V/us): 1700; Vio(Max)(mV): 17; Vn at Flatband(Typ)(nV/rtHz): 8.2; Vs(Max)(V): 12; Vs(Min)(V): 7; DatasheetVersion: SBOS395C; PackageVersion: 4073272/C, 02/2004; PackageReference: DGS10; PackageDescription: 10-Pin Plastic Small Outline, Body 3 x 3 mm, Pitch 0.5 mm; Supplier 1: Digi-Key; Supplier Part Number 1: VCA820IDGSTG4-ND; Supplier 2: Mouser; Supplier Part Number 2: 595-VCA820IDGSTG4; Eco-Plan: Green (RoHS & no Sb/Br); SubFamily: Variable Gain Amplifier; Mounting Technology: Surface Mount; Code_JEDEC: MO-153; ComponentLink1Description: Manufacturer URL; ComponentLink1URL: http://www.ti.com/; ComponentLink2Description: Datasheet; ComponentLink2URL: http://www.ti.com/general/docs/lit/getliterature.tsp?genericPartNumber=VCA820&fileType=pdf; ComponentLink3Description: Package Specification; ComponentLink3URL: http://www.ti.com/lit/ml/mpds035b/mpds035b.pdf
footprint TI-DGS10_N (SOP, 10-Leads, Body 3.1x3.1mm, Pitch 0.5mm, IPC Medium Density)
footprint TI-DGS10_L (SOP, 10-Leads, Body 3.1x3.1mm, Pitch 0.5mm, IPC High Density)
footprint TI-DGS10_M (SOP, 10-Leads, Body 3.1x3.1mm, Pitch 0.5mm, IPC Low Density)
pins: 1 I- (in), 2 VCC+ (power), 3 VG (in), 4 VIN+ (in), 5 RG+ (in), 6 RG- (in), 7 VIN- (in), 8 VCC- (power), 9 VOUT (out), 10 GND (power)

## VCA820IDR
designator U?
150 MHz BW with Linear in dB Gain Control Variable Gain Amplifier, -40 to 85 degC, 14-pin SOIC (D14), Green (RoHS & no Sb/Br); Manufacturer: Texas Instruments; PartNumber: VCA820IDR; Iib(Max)(nA): 25000; Number of Channels: 1; Slew Rate(Typ)(V/us): 1700; Vio(Max)(mV): 17; Vn at Flatband(Typ)(nV/rtHz): 8.2; Vs(Max)(V): 12; Vs(Min)(V): 7; DatasheetVersion: SBOS395C; PackageVersion: 4040047-5/M, 06/2011; PackageReference: D14; PackageDescription: 14-Pin Plastic Small Outline, Body 8.65 x 3.9 mm, Pitch 1.27 mm; Supplier 1: Digi-Key; Supplier Part Number 1: VCA820IDR-ND; Supplier 2: Mouser; Supplier Part Number 2: 595-VCA820IDR; Eco-Plan: Green (RoHS & no Sb/Br); SubFamily: Variable Gain Amplifier; Mounting Technology: Surface Mount; Code_JEDEC: MS-012; ComponentLink1Description: Manufacturer URL; ComponentLink1URL: http://www.ti.com/; ComponentLink2Description: Datasheet; ComponentLink2URL: http://www.ti.com/general/docs/lit/getliterature.tsp?genericPartNumber=VCA820&fileType=pdf; ComponentLink3Description: Package Specification; ComponentLink3URL: http://www.ti.com/lit/ml/mpds177g/mpds177g.pdf
footprint TI-D14_N (SOIC, 14-Leads, Body 8.75x4mm, Pitch 1.27mm, IPC Medium Density)
footprint TI-D14_L (SOIC, 14-Leads, Body 8.75x4mm, Pitch 1.27mm, IPC High Density)
footprint TI-D14_M (SOIC, 14-Leads, Body 8.75x4mm, Pitch 1.27mm, IPC Low Density)
part A pins: 2 VG (in), 3 VIN+ (in), 4 RG+ (in), 5 RG- (in), 6 VIN- (in), 10 VOUT (out), 12 I- (in)
part B pins: 1 V+ (power), 7 V- (power), 8 V- (power), 9 VREF (in), 11 GND (power), 13 NC, 14 V+ (power)

## VCA820IDRG4
designator U?
150 MHz BW with Linear in dB Gain Control Variable Gain Amplifier, -40 to 85 degC, 14-pin SOIC (D14), Green (RoHS & no Sb/Br); Manufacturer: Texas Instruments; PartNumber: VCA820IDRG4; Iib(Max)(nA): 25000; Number of Channels: 1; Slew Rate(Typ)(V/us): 1700; Vio(Max)(mV): 17; Vn at Flatband(Typ)(nV/rtHz): 8.2; Vs(Max)(V): 12; Vs(Min)(V): 7; DatasheetVersion: SBOS395C; PackageVersion: 4040047-5/M, 06/2011; PackageReference: D14; PackageDescription: 14-Pin Plastic Small Outline, Body 8.65 x 3.9 mm, Pitch 1.27 mm; Supplier 1: Digi-Key; Supplier Part Number 1: VCA820IDRG4-ND; Supplier 2: Mouser; Supplier Part Number 2: 595-VCA820IDRG4; Eco-Plan: Green (RoHS & no Sb/Br); SubFamily: Variable Gain Amplifier; Mounting Technology: Surface Mount; Code_JEDEC: MS-012; ComponentLink1Description: Manufacturer URL; ComponentLink1URL: http://www.ti.com/; ComponentLink2Description: Datasheet; ComponentLink2URL: http://www.ti.com/general/docs/lit/getliterature.tsp?genericPartNumber=VCA820&fileType=pdf; ComponentLink3Description: Package Specification; ComponentLink3URL: http://www.ti.com/lit/ml/mpds177g/mpds177g.pdf
footprint TI-D14_N (SOIC, 14-Leads, Body 8.75x4mm, Pitch 1.27mm, IPC Medium Density)
footprint TI-D14_L (SOIC, 14-Leads, Body 8.75x4mm, Pitch 1.27mm, IPC High Density)
footprint TI-D14_M (SOIC, 14-Leads, Body 8.75x4mm, Pitch 1.27mm, IPC Low Density)
part A pins: 2 VG (in), 3 VIN+ (in), 4 RG+ (in), 5 RG- (in), 6 VIN- (in), 10 VOUT (out), 12 I- (in)
part B pins: 1 V+ (power), 7 V- (power), 8 V- (power), 9 VREF (in), 11 GND (power), 13 NC, 14 V+ (power)

## VCA821ID
designator U?
Wideband, > 40 dB Adjust Range, Linear in dB Variable Gain Amplifier, -40 to 85 degC, 14-pin SOIC (D14), Green (RoHS & no Sb/Br); Manufacturer: Texas Instruments; PartNumber: VCA821ID; BW @ Acl(MHz): 710; Iib(Max)(nA): 25000; Number of Channels: 1; Slew Rate(Typ)(V/us): 2500; Vio(Max)(mV): 17; Vn at Flatband(Typ)(nV/rtHz): 6; Vs(Max)(V): 12; Vs(Min)(V): 7; DatasheetVersion: SBOS407B; PackageVersion: 4040047-5/M, 06/2011; PackageReference: D14; PackageDescription: 14-Pin Plastic Small Outline, Body 8.65 x 3.9 mm, Pitch 1.27 mm; Supplier 1: Digi-Key; Supplier Part Number 1: 296-22989-5-ND; Supplier 2: Farnell; Supplier Part Number 2: 1755565; Supplier 3: Newark; Supplier Part Number 3: 50R6971; Supplier 4: Mouser; Supplier Part Number 4: 595-VCA821ID; Eco-Plan: Green (RoHS & no Sb/Br); SubFamily: Variable Gain Amplifier; Mounting Technology: Surface Mount; Code_JEDEC: MS-012; ComponentLink1Description: Manufacturer URL; ComponentLink1URL: http://www.ti.com/; ComponentLink2Description: Datasheet; ComponentLink2URL: http://www.ti.com/general/docs/lit/getliterature.tsp?genericPartNumber=VCA821&fileType=pdf; ComponentLink3Description: Package Specification; ComponentLink3URL: http://www.ti.com/lit/ml/mpds177g/mpds177g.pdf
footprint TI-D14_N (SOIC, 14-Leads, Body 8.75x4mm, Pitch 1.27mm, IPC Medium Density)
footprint TI-D14_L (SOIC, 14-Leads, Body 8.75x4mm, Pitch 1.27mm, IPC High Density)
footprint TI-D14_M (SOIC, 14-Leads, Body 8.75x4mm, Pitch 1.27mm, IPC Low Density)
part A pins: 2 VG (in), 3 VIN+ (in), 4 RG+ (in), 5 RG- (in), 6 VIN- (in), 10 VOUT (out), 12 FB (in)
part B pins: 1 VCC+ (power), 7 VCC- (power), 8 VCC- (power), 9 VREF (in), 11 GND (power), 13 NC, 14 VCC+ (power)

## VCA821IDG4
designator U?
Wideband, > 40 dB Adjust Range, Linear in dB Variable Gain Amplifier, -40 to 85 degC, 14-pin SOIC (D14), Green (RoHS & no Sb/Br); Manufacturer: Texas Instruments; PartNumber: VCA821IDG4; BW @ Acl(MHz): 710; Iib(Max)(nA): 25000; Number of Channels: 1; Slew Rate(Typ)(V/us): 2500; Vio(Max)(mV): 17; Vn at Flatband(Typ)(nV/rtHz): 6; Vs(Max)(V): 12; Vs(Min)(V): 7; DatasheetVersion: SBOS407B; PackageVersion: 4040047-5/M, 06/2011; PackageReference: D14; PackageDescription: 14-Pin Plastic Small Outline, Body 8.65 x 3.9 mm, Pitch 1.27 mm; Supplier 1: Digi-Key; Supplier Part Number 1: VCA821IDG4-ND; Supplier 2: Mouser; Supplier Part Number 2: 595-VCA821IDG4; Eco-Plan: Green (RoHS & no Sb/Br); SubFamily: Variable Gain Amplifier; Mounting Technology: Surface Mount; Code_JEDEC: MS-012; ComponentLink1Description: Manufacturer URL; ComponentLink1URL: http://www.ti.com/; ComponentLink2Description: Datasheet; ComponentLink2URL: http://www.ti.com/general/docs/lit/getliterature.tsp?genericPartNumber=VCA821&fileType=pdf; ComponentLink3Description: Package Specification; ComponentLink3URL: http://www.ti.com/lit/ml/mpds177g/mpds177g.pdf
footprint TI-D14_N (SOIC, 14-Leads, Body 8.75x4mm, Pitch 1.27mm, IPC Medium Density)
footprint TI-D14_L (SOIC, 14-Leads, Body 8.75x4mm, Pitch 1.27mm, IPC High Density)
footprint TI-D14_M (SOIC, 14-Leads, Body 8.75x4mm, Pitch 1.27mm, IPC Low Density)
part A pins: 2 VG (in), 3 VIN+ (in), 4 RG+ (in), 5 RG- (in), 6 VIN- (in), 10 VOUT (out), 12 FB (in)
part B pins: 1 VCC+ (power), 7 VCC- (power), 8 VCC- (power), 9 VREF (in), 11 GND (power), 13 NC, 14 VCC+ (power)

## VCA821IDGSR
designator U?
Wideband, > 40 dB Adjust Range, Linear in dB Variable Gain Amplifier, -40 to 85 degC, 10-pin SOP (DGS10), Green (RoHS & no Sb/Br); Manufacturer: Texas Instruments; PartNumber: VCA821IDGSR; BW @ Acl(MHz): 710; Iib(Max)(nA): 25000; Number of Channels: 1; Slew Rate(Typ)(V/us): 2500; Vio(Max)(mV): 17; Vn at Flatband(Typ)(nV/rtHz): 6; Vs(Max)(V): 12; Vs(Min)(V): 7; DatasheetVersion: SBOS407B; PackageVersion: 4073272/C, 02/2004; PackageReference: DGS10; PackageDescription: 10-Pin Plastic Small Outline, Body 3 x 3 mm, Pitch 0.5 mm; Supplier 1: Digi-Key; Supplier Part Number 1: VCA821IDGSR-ND; Supplier 2: Mouser; Supplier Part Number 2: 595-VCA821IDGSR; Eco-Plan: Green (RoHS & no Sb/Br); SubFamily: Variable Gain Amplifier; Mounting Technology: Surface Mount; Code_JEDEC: MO-153; ComponentLink1Description: Manufacturer URL; ComponentLink1URL: http://www.ti.com/; ComponentLink2Description: Datasheet; ComponentLink2URL: http://www.ti.com/general/docs/lit/getliterature.tsp?genericPartNumber=VCA821&fileType=pdf; ComponentLink3Description: Package Specification; ComponentLink3URL: http://www.ti.com/lit/ml/mpds035b/mpds035b.pdf
footprint TI-DGS10_N (SOP, 10-Leads, Body 3.1x3.1mm, Pitch 0.5mm, IPC Medium Density)
footprint TI-DGS10_L (SOP, 10-Leads, Body 3.1x3.1mm, Pitch 0.5mm, IPC High Density)
footprint TI-DGS10_M (SOP, 10-Leads, Body 3.1x3.1mm, Pitch 0.5mm, IPC Low Density)
pins: 1 FB (in), 2 VCC+ (power), 3 VG (in), 4 VIN+ (in), 5 RG+ (in), 6 RG- (in), 7 VIN- (in), 8 VCC- (power), 9 VOUT (out), 10 GND (power)

## VCA821IDGSRG4
designator U?
Wideband, > 40 dB Adjust Range, Linear in dB Variable Gain Amplifier, -40 to 85 degC, 10-pin SOP (DGS10), Green (RoHS & no Sb/Br); Manufacturer: Texas Instruments; PartNumber: VCA821IDGSRG4; BW @ Acl(MHz): 710; Iib(Max)(nA): 25000; Number of Channels: 1; Slew Rate(Typ)(V/us): 2500; Vio(Max)(mV): 17; Vn at Flatband(Typ)(nV/rtHz): 6; Vs(Max)(V): 12; Vs(Min)(V): 7; DatasheetVersion: SBOS407B; PackageVersion: 4073272/C, 02/2004; PackageReference: DGS10; PackageDescription: 10-Pin Plastic Small Outline, Body 3 x 3 mm, Pitch 0.5 mm; Supplier 1: Digi-Key; Supplier Part Number 1: VCA821IDGSRG4-ND; Supplier 2: Mouser; Supplier Part Number 2: 595-VCA821IDGSRG4; Eco-Plan: Green (RoHS & no Sb/Br); SubFamily: Variable Gain Amplifier; Mounting Technology: Surface Mount; Code_JEDEC: MO-153; ComponentLink1Description: Manufacturer URL; ComponentLink1URL: http://www.ti.com/; ComponentLink2Description: Datasheet; ComponentLink2URL: http://www.ti.com/general/docs/lit/getliterature.tsp?genericPartNumber=VCA821&fileType=pdf; ComponentLink3Description: Package Specification; ComponentLink3URL: http://www.ti.com/lit/ml/mpds035b/mpds035b.pdf
footprint TI-DGS10_N (SOP, 10-Leads, Body 3.1x3.1mm, Pitch 0.5mm, IPC Medium Density)
footprint TI-DGS10_L (SOP, 10-Leads, Body 3.1x3.1mm, Pitch 0.5mm, IPC High Density)
footprint TI-DGS10_M (SOP, 10-Leads, Body 3.1x3.1mm, Pitch 0.5mm, IPC Low Density)
pins: 1 FB (in), 2 VCC+ (power), 3 VG (in), 4 VIN+ (in), 5 RG+ (in), 6 RG- (in), 7 VIN- (in), 8 VCC- (power), 9 VOUT (out), 10 GND (power)

## VCA821IDGST
designator U?
Wideband, > 40 dB Adjust Range, Linear in dB Variable Gain Amplifier, -40 to 85 degC, 10-pin SOP (DGS10), Green (RoHS & no Sb/Br); Manufacturer: Texas Instruments; PartNumber: VCA821IDGST; BW @ Acl(MHz): 710; Iib(Max)(nA): 25000; Number of Channels: 1; Slew Rate(Typ)(V/us): 2500; Vio(Max)(mV): 17; Vn at Flatband(Typ)(nV/rtHz): 6; Vs(Max)(V): 12; Vs(Min)(V): 7; DatasheetVersion: SBOS407B; PackageVersion: 4073272/C, 02/2004; PackageReference: DGS10; PackageDescription: 10-Pin Plastic Small Outline, Body 3 x 3 mm, Pitch 0.5 mm; Supplier 1: Digi-Key; Supplier Part Number 1: 296-22990-2-ND; Supplier 2: Digi-Key; Supplier Part Number 2: 296-22990-1-ND; Supplier 3: Digi-Key; Supplier Part Number 3: 296-22990-6-ND; Supplier 4: Mouser; Supplier Part Number 4: 595-VCA821IDGST; Eco-Plan: Green (RoHS & no Sb/Br); SubFamily: Variable Gain Amplifier; Mounting Technology: Surface Mount; Code_JEDEC: MO-153; ComponentLink1Description: Manufacturer URL; ComponentLink1URL: http://www.ti.com/; ComponentLink2Description: Datasheet; ComponentLink2URL: http://www.ti.com/general/docs/lit/getliterature.tsp?genericPartNumber=VCA821&fileType=pdf; ComponentLink3Description: Package Specification; ComponentLink3URL: http://www.ti.com/lit/ml/mpds035b/mpds035b.pdf
footprint TI-DGS10_N (SOP, 10-Leads, Body 3.1x3.1mm, Pitch 0.5mm, IPC Medium Density)
footprint TI-DGS10_L (SOP, 10-Leads, Body 3.1x3.1mm, Pitch 0.5mm, IPC High Density)
footprint TI-DGS10_M (SOP, 10-Leads, Body 3.1x3.1mm, Pitch 0.5mm, IPC Low Density)
pins: 1 FB (in), 2 VCC+ (power), 3 VG (in), 4 VIN+ (in), 5 RG+ (in), 6 RG- (in), 7 VIN- (in), 8 VCC- (power), 9 VOUT (out), 10 GND (power)